# Altium footprint library CNY70.PcbLib: 1 footprints
Each footprint in its own frame and in the unit in brackets; x right, y up, seen from the top. Pads: shape width x height; smd on the part's side, far side on the other; paste and mask are expansions set on the pad; w line width, h text height; cw(c..) or ccw(c..) is an arc to the next point about the centre after c.
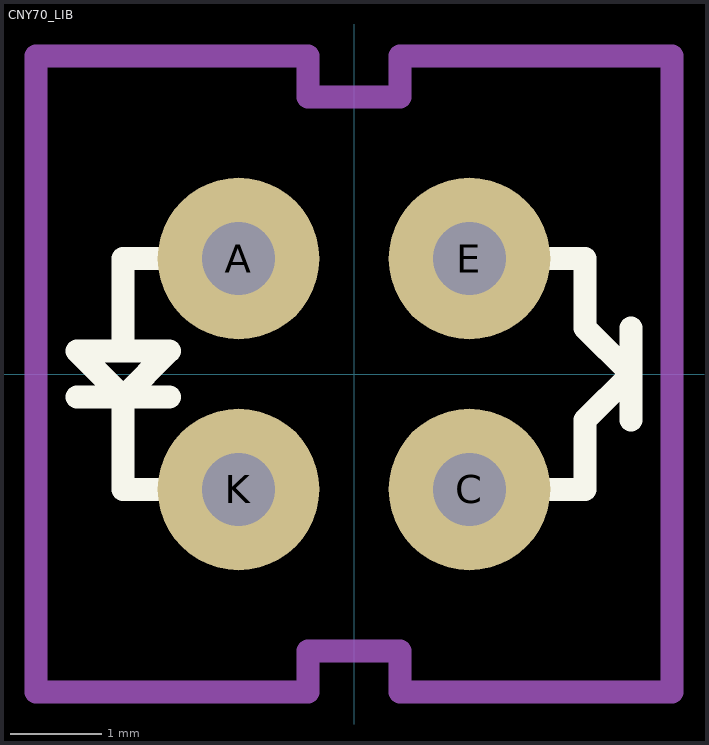
[diagram p0: the footprint, top view; thin cyan lines are the x and y axes]

## CNY70_LIB [mil]
pads (4):
  round 70 hole 31.5: A(-50,50) C(50,-50) E(50,50) K(-50,-50)
Top Overlay:
  lines w10: -120,-10 -80,-10 ; -100,10 -100,50 -50,50 ; -50,-50 -100,-50 -100,-10 ; 50,-50 100,-50 100,-20 120,0 100,20 100,50 50,50 ; 120,-20 120,20 ; -100,-10 -80,10 -120,10 -100,-10
Mechanical 1:
  lines w10: -137.8,-137.8 -20,-137.8 -20,-120 20,-120 20,-137.8 137.8,-137.8 137.8,137.8 20,137.8 20,120 -20,120 -20,137.8 -137.8,137.8 -137.8,-137.8